# Altium integrated library Ceramic_Capacitors.IntLib: 12 symbols
Pins are listed as number, name and electrical type; pins without a type are passive.

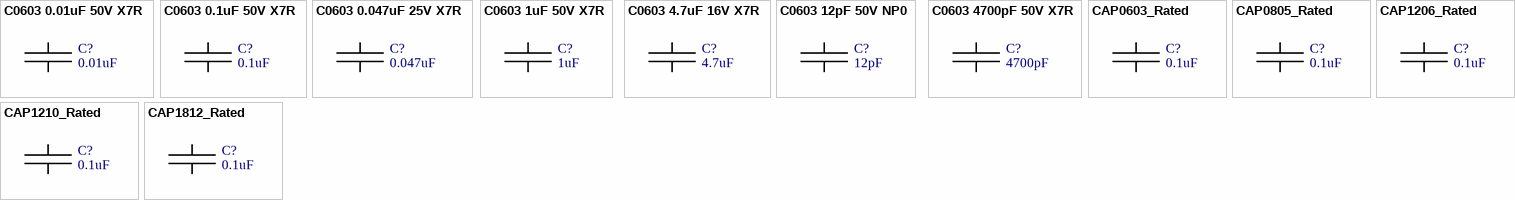
[diagram p0: symbols C0603 0.01uF 50V X7R to CAP1812_Rated]

## C0603 0.01uF 50V X7R
designator C?  value 0.01uF  (hidden comment: *)
1Ccode: М00047994; 1Cname: C0603-X7R-50V-0,01uF; 1Cgroup: 01010601; 1Carticle: 36625; Name: Конденсатор 0603 0,01 мкФ 50 В X7R; RatedVoltage: 50V; TemperatureCharacteristic: X7R; 1CfullName: C0603-X7R-50V-0,01uF; Manufacturer: *; PartNumber: *; ComponentLink1Description: DatasheetLink; ComponentLink1URL: *; Case: 0603; Tolerance: *
footprint CAP0603 (Chip Capacitor, 2-Leads, Body 1,60x0,85mm, IPC Low Density)
pins: 1, 2

## C0603 0.1uF 50V X7R
designator C?  value 0.1uF  (hidden comment: *)
1Ccode: М00026616; 1Cname: C0603-X7R-50V-0,1 uF; 1Cgroup: 01010601; 1Carticle: 15688; Name: Конденсатор 0603 0,1 мкФ 50 В X7R; RatedVoltage: 50V; TemperatureCharacteristic: X7R; 1CfullName: C0603-X7R-50V-0,1 uF; Manufacturer: *; PartNumber: *; ComponentLink1Description: DatasheetLink; ComponentLink1URL: *; Case: 0603; Tolerance: *
footprint CAP0603 (Chip Capacitor, 2-Leads, Body 1,60x0,85mm, IPC Low Density)
pins: 1, 2

## C0603 0.047uF 25V X7R
designator C?  value 0.047uF  (hidden comment: *)
1Ccode: М00046477; 1Cname: C0603-X7R-25V-0,047uF; 1Cgroup: 01010601; 1Carticle: 35155; Name: Конденсатор 0603 0,047 мкФ 25 В X7R; RatedVoltage: 25V; TemperatureCharacteristic: X7R; 1CfullName: C0603-X7R-25V-0,047uF; Manufacturer: *; PartNumber: *; ComponentLink1Description: DatasheetLink; ComponentLink1URL: *; Case: 0603; Tolerance: *
footprint CAP0603 (Chip Capacitor, 2-Leads, Body 1,60x0,85mm, IPC Low Density)
pins: 1, 2

## C0603 1uF 50V X7R
designator C?  value 1uF  (hidden comment: *)
1Ccode: М00024678; 1Cname: C0603-X7R-50V-1uF; 1Cgroup: 01010601; 1Carticle: 8893; Name: Конденсатор 0603 0,1 мкФ 50 В X7R; RatedVoltage: 50V; TemperatureCharacteristic: X7R; 1CfullName: C0603-X7R-50V-1uF; Manufacturer: *; PartNumber: *; ComponentLink1Description: DatasheetLink; ComponentLink1URL: *; Case: 0603; Tolerance: *
footprint CAP0603 (Chip Capacitor, 2-Leads, Body 1,60x0,85mm, IPC Low Density)
pins: 1, 2

## C0603 4.7uF 16V X7R
designator C?  value 4.7uF  (hidden comment: *)
1Ccode: М00048062; 1Cname: C0603-X7R-16V-4,7uF; 1Cgroup: 01010601; 1Carticle: 36660; Name: Конденсатор 0603 4,7 мкФ 16 В X7R; RatedVoltage: 16V; TemperatureCharacteristic: X7R; 1CfullName: C0603-X7R-16V-4,7uF; Manufacturer: *; PartNumber: *; ComponentLink1Description: DatasheetLink; ComponentLink1URL: *; Case: 0603; Tolerance: *
footprint CAP0603 (Chip Capacitor, 2-Leads, Body 1,60x0,85mm, IPC Low Density)
pins: 1, 2

## C0603 12pF 50V NP0
designator C?  value 12pF  (hidden comment: *)
1Ccode: М00026100; 1Cname: C0603-NPO-50V-12 pF; 1Cgroup: 01010601; 1Carticle: 13640; Name: Конденсатор 0603 12 пФ 50 В NP0; RatedVoltage: 50V; TemperatureCharacteristic: NP0; 1CfullName: C0603-NPO-50V-12 pF; Manufacturer: *; PartNumber: *; ComponentLink1Description: DatasheetLink; ComponentLink1URL: *; Case: 0603; Tolerance: *
footprint CAP0603 (Chip Capacitor, 2-Leads, Body 1,60x0,85mm, IPC Low Density)
pins: 1, 2

## C0603 4700pF 50V X7R
designator C?  value 4700pF  (hidden comment: *)
1Ccode: М00065868; 1Cname: C0603-X7R-50V-4700pF; 1Cgroup: 01010601; 1Carticle: 55834; Name: Конденсатор 0603 4700 пФ 50 В X7R; RatedVoltage: 50V; TemperatureCharacteristic: X7R; 1CfullName: C0603-X7R-50V-4700pF; Manufacturer: *; PartNumber: *; ComponentLink1Description: DatasheetLink; ComponentLink1URL: *; Case: 0603; Tolerance: *
footprint CAP0603 (Chip Capacitor, 2-Leads, Body 1,60x0,85mm, IPC Low Density)
pins: 1, 2

## CAP0603_Rated
designator C?  value 0.1uF  (hidden comment: *)
1Ccode: *; 1Cname: *; 1CfullName: *; 1Cgroup: *; 1Carticle: *; Manufacturer: *; Name: *; PartNumber: *; ComponentLink1Description: DatasheetLink; ComponentLink1URL: *; Case: 0603; Tolerance: *; RatedVoltage: *; TemperatureCharacteristic: *
footprint CAP0603 (Chip Capacitor, 2-Leads, Body 1,60x0,85mm, IPC Low Density)
pins: 1, 2

## CAP0805_Rated
designator C?  value 0.1uF  (hidden comment: *)
1Ccode: *; 1Cname: *; 1CfullName: *; 1Cgroup: *; 1Carticle: *; Manufacturer: *; Name: *; PartNumber: *; ComponentLink1Description: DatasheetLink; ComponentLink1URL: *; Case: 0805; Tolerance: *; RatedVoltage: *; TemperatureCharacteristic: *
footprint CAP0805 (Chip Capacitor, 2-Leads, Body 2,00x1,25mm, IPC Low Density)
pins: 1, 2

## CAP1206_Rated
designator C?  value 0.1uF  (hidden comment: *)
1Ccode: *; 1Cname: *; 1CfullName: *; 1Cgroup: *; 1Carticle: *; Manufacturer: *; Name: *; PartNumber: *; ComponentLink1Description: DatasheetLink; ComponentLink1URL: *; Case: 1206; Tolerance: *; RatedVoltage: *; TemperatureCharacteristic: *
footprint CAP1206 (Chip Capacitor, 2-Leads)
pins: 1, 2

## CAP1210_Rated
designator C?  value 0.1uF  (hidden comment: *)
1Ccode: *; 1Cname: *; 1CfullName: *; 1Cgroup: *; 1Carticle: *; Manufacturer: *; Name: *; PartNumber: *; ComponentLink1Description: DatasheetLink; ComponentLink1URL: *; Case: 1210; Tolerance: *; RatedVoltage: *; TemperatureCharacteristic: *
footprint CAP1210
pins: 1, 2

## CAP1812_Rated
designator C?  value 0.1uF  (hidden comment: *)
1Ccode: *; 1Cname: *; 1CfullName: *; 1Cgroup: *; 1Carticle: *; Manufacturer: *; Name: *; PartNumber: *; ComponentLink1Description: DatasheetLink; ComponentLink1URL: *; Case: 1812; Tolerance: *; RatedVoltage: *; TemperatureCharacteristic: *
footprint CAP1812
pins: 1, 2